# Altium schematic symbol library maxim-logic.SchLib: 1 symbol
Pins are listed as number, name and electrical type; pins without a type are passive.

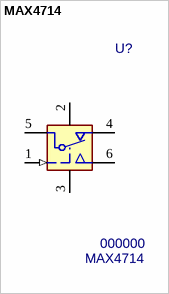
[diagram p0: symbol MAX4714]

## MAX4714
designator U?, comment 000000  value MAX4714
SPDT Snalog Switch; PN: 000000; Package: SC70; ExtraInfo: *
footprint SC70 (6-Lead Plastic surface-mounted package, 0.65mm pitch, SOT363/SC-88)
simulation model MAX4714SPDT (Model Description)
pins: 1 IN (in), 2 V+ (power), 3 GND (power), 4 NC (hiz), 5 COM (hiz), 6 NO (hiz)
1 alternate drawing of the same symbol